# Altium schematic symbol library TL494.SCHLIB: 1 symbol
Pins are listed as number, name and electrical type; pins without a type are passive.

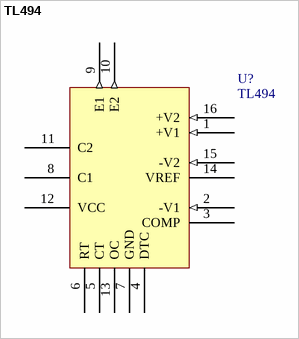
[diagram p0: symbol TL494]

## TL494
designator U?
footprint DIP-16 (DIP; 16 Leads; Row Spacing 7.62 mm; Pitch 2.54 mm)
pins: 1 +V1 (in), 2 -V1 (in), 3 COMP, 4 DTC, 5 CT, 6 RT, 7 GND (power) hidden to GND, 8 C1, 9 E1 (out), 10 E2 (out), 11 C2, 12 VCC (power) hidden to VCC, 13 OC, 14 VREF, 15 -V2 (in), 16 +V2 (in)